# Altium footprint library R_2512_6432.PcbLib: 1 footprints
Each footprint in its own frame and in the unit in brackets; x right, y up, seen from the top. Pads: shape width x height; smd on the part's side, far side on the other; paste and mask are expansions set on the pad; w line width, h text height; cw(c..) or ccw(c..) is an arc to the next point about the centre after c.
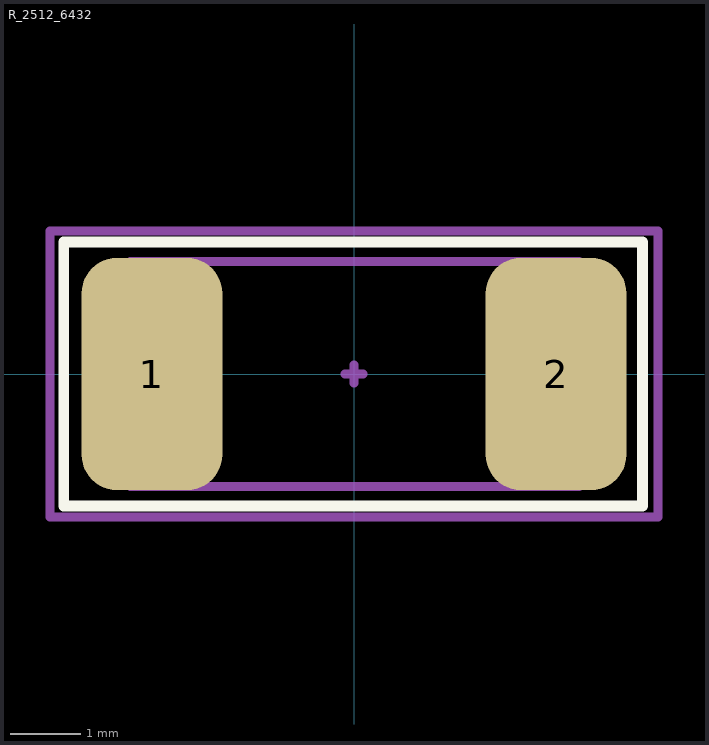
[diagram p0: the footprint, top view; thin cyan lines are the x and y axes]

## R_2512_6432 [mm]
pads (2):
  rrect50% 2x3.3 smd mask+0.05: 1(-2.871,0) 2(2.871,0)
Top Overlay:
  lines w0.152: -4.125,-1.875 -4.125,1.875 4.1,1.875 4.1,-1.875 -4.125,-1.875
Assembly Top:
  lines w0.127: -3.175,-1.601 3.2,-1.601 3.2,1.601 -3.175,1.601 -3.175,-1.601
Courtyard Top:
  lines w0.127: -0.127,0 0.127,0 ; 0,-0.127 0,0.127 ; -4.318,-2.032 4.318,-2.032 4.318,2.032 -4.318,2.032 -4.318,-2.032
3D body "User Library-Chip Resistor_2512 (6432).step": height 0.57, standoff 0, extent -3.175,-1.601 3.175,1.601